# EAGLE library part LTV-847* (library LiteOn)
4 Channel DC Optoisolator Isolation: 5000Vrms Output/Channel: 35V, 50mA Vce Saturation (Max): 200mV Transfer Ratio (Min): 50% @ 5mA Variations Blank - 0.300" Through-hole M - 0.400" Through-hole S - SMD From LiteOn Datasheet BNS-OD-C131/A4
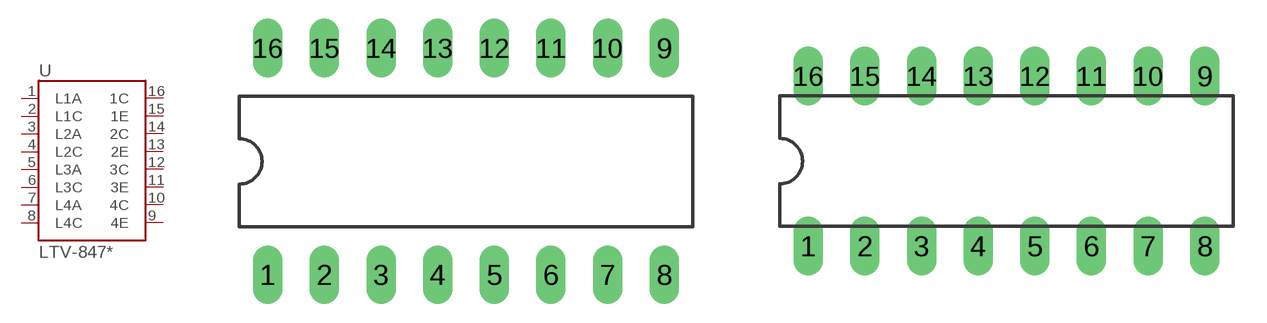
[diagram p0: symbol with the pads of DIL16W; footprints DIL16W, DIL16]

Designator prefix U

## LTV-847M  [DIL16W]
1  L1A
2  L1C
3  L2A
4  L2C
5  L3A
6  L3C
7  L4A
8  L4C
9  4E
10  4C
11  3E
12  3C
13  2E
14  2C
15  1E
16  1C

## LTV-847  [DIL16]
Pads as for DIL16W

## LTV-847S  [QUAD_SMT]
Pads as for DIL16W

## Footprint DIL16W (pad centres in mm)
Dual In Line Package
drill 0.813 long: 1 -8.89,-5.08; 2 -6.35,-5.08; 3 -3.81,-5.08; 4 -1.27,-5.08; 5 1.27,-5.08; 6 3.81,-5.08; 7 6.35,-5.08; 8 8.89,-5.08; 9 8.89,5.08; 10 6.35,5.08; 11 3.81,5.08; 12 1.27,5.08; 13 -1.27,5.08; 14 -3.81,5.08; 15 -6.35,5.08; 16 -8.89,5.08

## Footprint DIL16 (pad centres in mm)
Dual In Line Package
drill 0.813 long: 1 -8.89,-3.81; 2 -6.35,-3.81; 3 -3.81,-3.81; 4 -1.27,-3.81; 5 1.27,-3.81; 6 3.81,-3.81; 7 6.35,-3.81; 8 8.89,-3.81; 9 8.89,3.81; 10 6.35,3.81; 11 3.81,3.81; 12 1.27,3.81; 13 -1.27,3.81; 14 -3.81,3.81; 15 -6.35,3.81; 16 -8.89,3.81

## Footprint QUAD_SMT (pad centres in mm)
smd 1.5 x 1.3: 1 -8.89,-4.5; 2 -6.35,-4.5; 3 -3.81,-4.5; 4 -1.27,-4.5; 5 1.27,-4.5; 6 3.81,-4.5; 7 6.35,-4.5; 8 8.89,-4.5; 9 8.89,4.5; 10 6.35,4.5; 11 3.81,4.5; 12 1.27,4.5; 13 -1.27,4.5; 14 -3.81,4.5; 15 -6.35,4.5; 16 -8.89,4.5